# Altium schematic symbol library Control.SchLib: 10 symbols
Pins are listed as number, name and electrical type; pins without a type are passive.

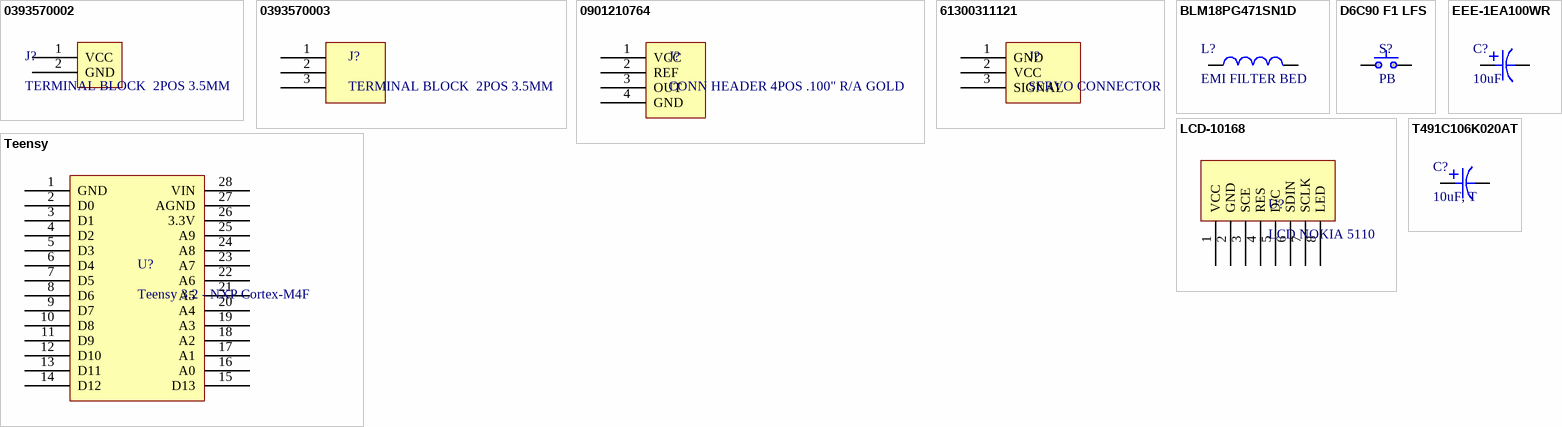
[diagram p0: symbols 0393570002 to Teensy]

## 0393570002
designator J?, comment TERMINAL BLOCK  2POS 3.5MM
CONN TERMINAL BLOCK 2POS 3.5MM; Manufacturer: Molex, LLC; Manufacturer Part Number: 0393570002; Number of Levels: 1; Positions Per Level: 2; Pitch: 0.138" (3.50mm); Mating Orientation: Horizontal with Board; Current: 12A; Voltage: 300V; Wire Gauge: 16-28 AWG; Wire Termination: Screw - Rising Cage Clamp; Clamp Material - Plating: Copper Alloy - Nickel Plated; Torque - Screw: 0.31 Nm (2.7 Lb-In); Screw Thread: M3; Supplier 1: Digi-Key; RoHS: RoHS Compliant; Category: Connectors, Interconnects; Stock 1: 1266; Pricing 1: 1=1.1, 10=0.686, 50=0.528, 100=0.517, 250=0.44, 500=0.418, 1000=0.374, 2500=0.297, 5000=0.2926 (USD); Packaging: Bulk; Mounting Type: Through Hole; Features: -; Color: Black; Operating Temperature: -40°C ~ 105°C; Housing Material: Polyamide (PA), Nylon; Contact Material - Plating: Copper Alloy - Tin Plated; Screw Material - Plating: Copper Alloy - Nickel Plated; ComponentLink1URL: http://www.molex.com/pdm_docs/sd/393570002_sd.pdf; ComponentLink1Description: http://www.molex.com/pdm_docs/sd/393570002_sd.pdf; Supplier Part Number 1: WM7877-ND
footprint 2POS3.5mm
pins: 1 VCC, 2 GND

## 0393570003
designator J?, comment TERMINAL BLOCK  2POS 3.5MM
CONN TERMINAL BLOCK 3POS 3.5MM; Manufacturer: Molex, LLC; Manufacturer Part Number: 0393570003; Number of Levels: 1; Positions Per Level: 3; Pitch: 0.138" (3.50mm); Mating Orientation: Horizontal with Board; Current: 12A; Voltage: 300V; Wire Gauge: 16-28 AWG; Wire Termination: Screw - Rising Cage Clamp; Clamp Material - Plating: Copper Alloy - Nickel Plated; Torque - Screw: 0.31 Nm (2.7 Lb-In); Screw Thread: M3; Supplier 1: Digi-Key; RoHS: RoHS Compliant; Category: Connectors, Interconnects; Stock 1: 0; Pricing 1: 1=1.44, 10=1.015, 50=0.8588, 100=0.855, 250=0.722, 500=0.684, 1000=0.608, 2500=0.5054, 5000=0.494 (USD); Packaging: Bulk; Mounting Type: Through Hole; Features: -; Color: Black; Operating Temperature: -40°C ~ 105°C; Housing Material: Polyamide (PA), Nylon; Contact Material - Plating: Copper Alloy - Tin Plated; Screw Material - Plating: Copper Alloy - Nickel Plated; ComponentLink1URL: http://www.molex.com/pdm_docs/sd/393570003_sd.pdf; ComponentLink1Description: http://www.molex.com/pdm_docs/sd/393570003_sd.pdf; Supplier Part Number 1: WM7878-ND
footprint 3POS3.5MM
pins: 1, 2, 3

## 0901210764
designator J?, comment CONN HEADER 4POS .100" R/A GOLD
Manufacturer: Molex, LLC; Manufacturer Part Number: 0901210764; Connector Type: Header, Unshrouded; Number of Positions: 4; Number of Positions Loaded: All; Pitch: 0.100" (2.54mm); Supplier 1: Digi-Key; RoHS: RoHS Compliant; Category: Connectors, Interconnects; Stock 1: 3373; Pricing 1: 1=0.8, 10=0.702, 50=0.6328, 100=0.6052, 250=0.5502, 500=0.49518, 1000=0.44016, 2500=0.3989, 5000=0.38514 (USD); Packaging: Bulk; Contact Type: Male Pin; Number of Rows: 1; Row Spacing: -; Contact Mating Length: 0.266" (6.75mm); Mounting Type: Through Hole, Right Angle; Termination: Solder; Fastening Type: -; Features: -; Contact Finish: Gold; Contact Finish Thickness: 15µin (0.38µm); Color: Black; ComponentLink1URL: http://www.molex.com/pdm_docs/sd/901210764_sd.pdf; ComponentLink1Description: http://www.molex.com/pdm_docs/sd/901210764_sd.pdf; Supplier Part Number 1: WM8110-ND
pins: 1 VCC, 2 REF, 3 OUT, 4 GND

## 61300311121
designator J?, comment SERVO CONNECTOR
CONN HEADER 3 POS 2.54; Manufacturer: Wurth Electronics Inc; Manufacturer Part Number: 61300311121; Connector Type: Header, Unshrouded; Number of Positions: 3; Number of Positions Loaded: All; Pitch: 0.100" (2.54mm); RoHS: RoHS Compliant; Category: Connectors, Interconnects; Packaging: Bulk; Contact Type: Male Pin; Number of Rows: 1; Row Spacing: -; Contact Mating Length: 0.236" (6.00mm); Mounting Type: Through Hole; Termination: Solder; Fastening Type: -; Features: -; Contact Finish: Gold; Contact Finish Thickness: -; Color: Black; ComponentLink1URL: http://katalog.we-online.de/em/datasheet/6130xx11121.pdf; ComponentLink1Description: http://katalog.we-online.de/em/datasheet/6130xx11121.pdf; Supplier 1: Digi-Key; Stock 1: 6203; Pricing 1: 1=0.35, 100=0.3159, 500=0.2673 (USD); ComponentLink2URL: http://katalog.we-online.de/em/datasheet/6130xx11021.pdf; ComponentLink2Description: http://katalog.we-online.de/em/datasheet/6130xx11021.pdf; Supplier Part Number 1: 732-5336-ND
pins: 1 GND, 2 VCC, 3 SIGNAL

## BLM18PG471SN1D
designator L?, comment EMI FILTER BED
FERRITE BEAD 470 OHM 0603; Manufacturer: Murata Electronics North America; Manufacturer Part Number: BLM18PG471SN1D; Filter Type: Power Line; Number of Lines: 1; Impedance @ Frequency: 470 Ohm @ 100MHz; Current Rating (Max): 1A; DC Resistance (DCR) (Max): 200 mOhm; Supplier 1: Digi-Key; RoHS: RoHS Compliant; Category: Filters; Stock 1: 101023; Pricing 1: 1=0.1, 10=0.083, 50=0.0684, 100=0.0501, 250=0.03644, 500=0.0334, 1000=0.02884 (USD); Packaging: Cut Tape (CT); Ratings: -; Operating Temperature: -55°C ~ 125°C; Package / Case: 0603 (1608 Metric); Mounting Type: Surface Mount; Height (Max): 0.037" (0.95mm); Size / Dimension: 0.063" L x 0.031" W (1.60mm x 0.80mm); ComponentLink1URL: http://search.murata.co.jp/Ceramy/image/img/PDF/ENG/L0110S0100BLM18P.pdf; ComponentLink1Description: http://search.murata.co.jp/Ceramy/image/img/PDF/ENG/L0110S0100BLM18P.pdf; Supplier Part Number 1: 490-5223-1-ND
footprint R0603
pins: 1, 2

## D6C90 F1 LFS
designator S?, comment PB
SWITCH PUSH SPST-NO 0.1A 32V; Manufacturer: C&K Components; Manufacturer Part Number: D6C90 F1 LFS; Switch Function: Off-Mom; Current Rating: 100mA (DC); Actuator Type: Square, Button; Color - Actuator/Cap: Black; Electrical Life: 250,000 Cycles; Supplier 1: Digi-Key; RoHS: RoHS Compliant; Category: Switches; Stock 1: 9241; Pricing 1: 1=0.82, 10=0.767, 25=0.73, 50=0.6936, 100=0.6753, 250=0.657, 500=0.6205, 1000=0.584, 2500=0.52925 (USD); Packaging: Bulk; Type: Keyswitch; Circuit: SPST-NO; Voltage Rating - AC: -; Voltage Rating - DC: 32V; Illumination Type, Color: -; Illumination Voltage (Nominal): -; Mounting Type: Through Hole; Termination Style: PC Pin; Ingress Protection: -; Features: Tactile Feedback; Panel Cutout Dimensions: -; Operating Temperature: -20°C ~ 85°C; Mechanical Life: -; ComponentLink1URL: http://www.ck-components.com/index.php?module=media&action=Display&cmpref=13327&lang=en&width=&height=&format=&alt=; ComponentLink1Description: http://www.ck-components.com/index.php?module=media&action=Display&cmpref=13327&lang=en&width=&height=&format=&alt=; Supplier Part Number 1: 401-1969-ND
footprint SW
pins: 1, 2

## EEE-1EA100WR
designator C?, comment 10uF
CAP ALUM 10UF 20% 25V SMD; Manufacturer: Panasonic Electronic Components; Manufacturer Part Number: EEE-1EA100WR; Capacitance: 10µF; Lifetime @ Temp.: 1000 Hrs @ 85°C; Ripple Current: 22mA; Surface Mount Land Size: 0.169" L x 0.169" W (4.30mm x 4.30mm); Supplier 1: Digi-Key; RoHS: RoHS Compliant; Category: Capacitors; Stock 1: 144383; Pricing 1: 1=0.41, 10=0.319, 25=0.2612, 50=0.2102, 100=0.1668, 250=0.12324, 500=0.0957, 1000=0.0754 (USD); Packaging: Cut Tape (CT); Tolerance: ±20%; Voltage Rating: 25V; ESR (Equivalent Series Resistance): -; Operating Temperature: -40°C ~ 85°C; Type: -; Applications: Automotive; Impedance: -; Lead Spacing: -; Size / Dimension: 0.157" Dia (4.00mm); Height - Seated (Max): 0.213" (5.40mm); Mounting Type: Surface Mount; Package / Case: Radial, Can - SMD; ComponentLink1URL: http://media.digikey.com/pdf/Data%20Sheets/Panasonic%20Capacitors%20PDFs/EEE_S_A.pdf; ComponentLink1Description: http://media.digikey.com/pdf/Data%20Sheets/Panasonic%20Capacitors%20PDFs/EEE_S_A.pdf; Supplier Part Number 1: PCE3895CT-ND
footprint CSVB
pins: 1, 2

## LCD-10168
designator U?, comment LCD NOKIA 5110
LCD GRAPHIC 84X48 NOKIA 5110; Manufacturer: SparkFun Electronics; Manufacturer Part Number: LCD-10168; Supplier 1: Digi-Key; RoHS: RoHS Compliant; Category: Optoelectronics; Stock 1: 49; Pricing 1: 1=9.95 (USD); ComponentLink1URL: https://www.sparkfun.com/datasheets/LCD/Monochrome/Nokia5110.pdf; ComponentLink1Description: https://www.sparkfun.com/datasheets/LCD/Monochrome/Nokia5110.pdf; Supplier Part Number 1: 1568-1349-ND
pins: 1 VCC, 2 GND, 3 SCE, 4 RES, 5 D/C, 6 SDIN, 7 SCLK, 8 LED

## T491C106K020AT
designator C?, comment 10uF, T
CAP TANT 10UF 20V 10% 2413; Manufacturer: Kemet; Manufacturer Part Number: T491C106K020AT; Manufacturer Size Code: C; Capacitance: 10µF; ESR (Equivalent Series Resistance): 1.8 Ohm; Type: Molded; Lifetime @ Temp.: 2000 Hrs @ 85°C; RoHS: RoHS Compliant; Category: Capacitors; Packaging: Cut Tape (CT); Tolerance: ±10%; Voltage - Rated: 20V; Operating Temperature: -55°C ~ 125°C; Mounting Type: Surface Mount; Package / Case: 2413 (6032 Metric); Size / Dimension: 0.236" L x 0.126" W (6.00mm x 3.20mm); Height - Seated (Max): 0.110" (2.80mm); Lead Spacing: -; Features: General Purpose; ComponentLink1URL: http://www.kemet.com/Lists/ProductCatalog/Attachments/254/KEM_T2005_T491.pdf; ComponentLink1Description: http://www.kemet.com/Lists/ProductCatalog/Attachments/254/KEM_T2005_T491.pdf; Supplier 1: Digi-Key; Stock 1: 94667; Pricing 1: 1=0.73, 10=0.7, 50=0.418, 100=0.3396, 250=0.28216, 500=0.25602, 1000=0.23513 (USD); Supplier Part Number 1: 399-5152-6-ND
footprint C1206
pins: 1, 2

## Teensy
designator U?, comment Teensy 3.2 - NXP Cortex-M4F
Manufacturer: SparkFun Electronics; Manufacturer Part Number: DEV-13305; Board Type: Evaluation Platform; Core Processor: ARM® Cortex®-M0+; Platform: Teensy-LC; For Use With/Related Products: KL2x; Contents: Board(s); Supplier 1: Digi-Key; RoHS: RoHS Compliant; Category: Programmers, Development Systems; Stock 1: 0; Pricing 1: 1=14.38 (USD); Type: MCU 32-Bit; Operating System: -; Mounting Type: Fixed; ComponentLink1URL: http://media.digikey.com/pdf/Data%20Sheets/Sparkfun%20PDFs/DEV-13305_Web.pdf; ComponentLink1Description: http://media.digikey.com/pdf/Data%20Sheets/Sparkfun%20PDFs/DEV-13305_Web.pdf; Supplier Part Number 1: 1568-1233-ND
footprint DIP28
pins: 1 GND, 2 D0, 3 D1, 4 D2, 5 D3, 6 D4, 7 D5, 8 D6, 9 D7, 10 D8, 11 D9, 12 D10, 13 D11, 14 D12, 15 D13, 16 A0, 17 A1, 18 A2, 19 A3, 20 A4, 21 A5, 22 A6, 23 A7, 24 A8, 25 A9, 26 3.3V, 27 AGND, 28 VIN